# Altium integrated library Interface - Differential Signal.IntLib: 1 symbol
Pins are listed as number, name and electrical type; pins without a type are passive.

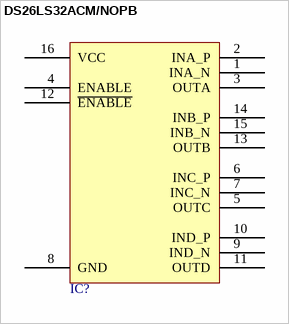
[diagram p0: symbol DS26LS32ACM/NOPB]

## DS26LS32ACM/NOPB
designator IC?  (value not drawn)
IC LINE RCVR QUAD DIFF 16-SOIC; Manufacturer: Texas Instruments; Protocol: RS422, RS423; Number of Drivers/Receivers: 0/4; Receiver Hysteresis: 100mV; Voltage - Supply: 4.5 V ~ 5.5 V; PartId: 29698; Part Number: DS26LS32ACM/NOPB; Supplier 1: Digi-Key; Supplier Part Number 1: DS26LS32ACM/NOPB-ND; ComponentLink1Description: Datasheet; ComponentLink1URL: http://www.ti.com/lit/ds/symlink/ds26ls32ac.pdf; ComponentLink2Description: Digi-Key Listing; ComponentLink2URL: http://www.digikey.com/product-detail/en/texas-instruments/DS26LS32ACM-NOPB/DS26LS32ACM-NOPB-ND/148966; Price: 1.49; Type: Receiver; Series: -; Part Status: Active; Duplex: -; Data Rate: -; Device Package: 16-SOIC (0.154", 3.90mm Width); Operating Temperature: 0C ~ 70C
footprint TI SOP-16 D
pins: 1 INA_N, 2 INA_P, 3 OUTA, 4 ENABLE, 5 OUTC, 6 INC_P, 7 INC_N, 8 GND, 9 IND_N, 10 IND_P, 11 OUTD, 12 ~{ENABLE}, 13 OUTB, 14 INB_P, 15 INB_N, 16 VCC